# Altium footprint library 28Pins V01.PcbLib: 29 footprints (part 2 of 2)
Each footprint in its own frame and in the unit in brackets; x right, y up, seen from the top. Pads: shape width x height; smd on the part's side, far side on the other; paste and mask are expansions set on the pad; w line width, h text height; cw(c..) or ccw(c..) is an arc to the next point about the centre after c.
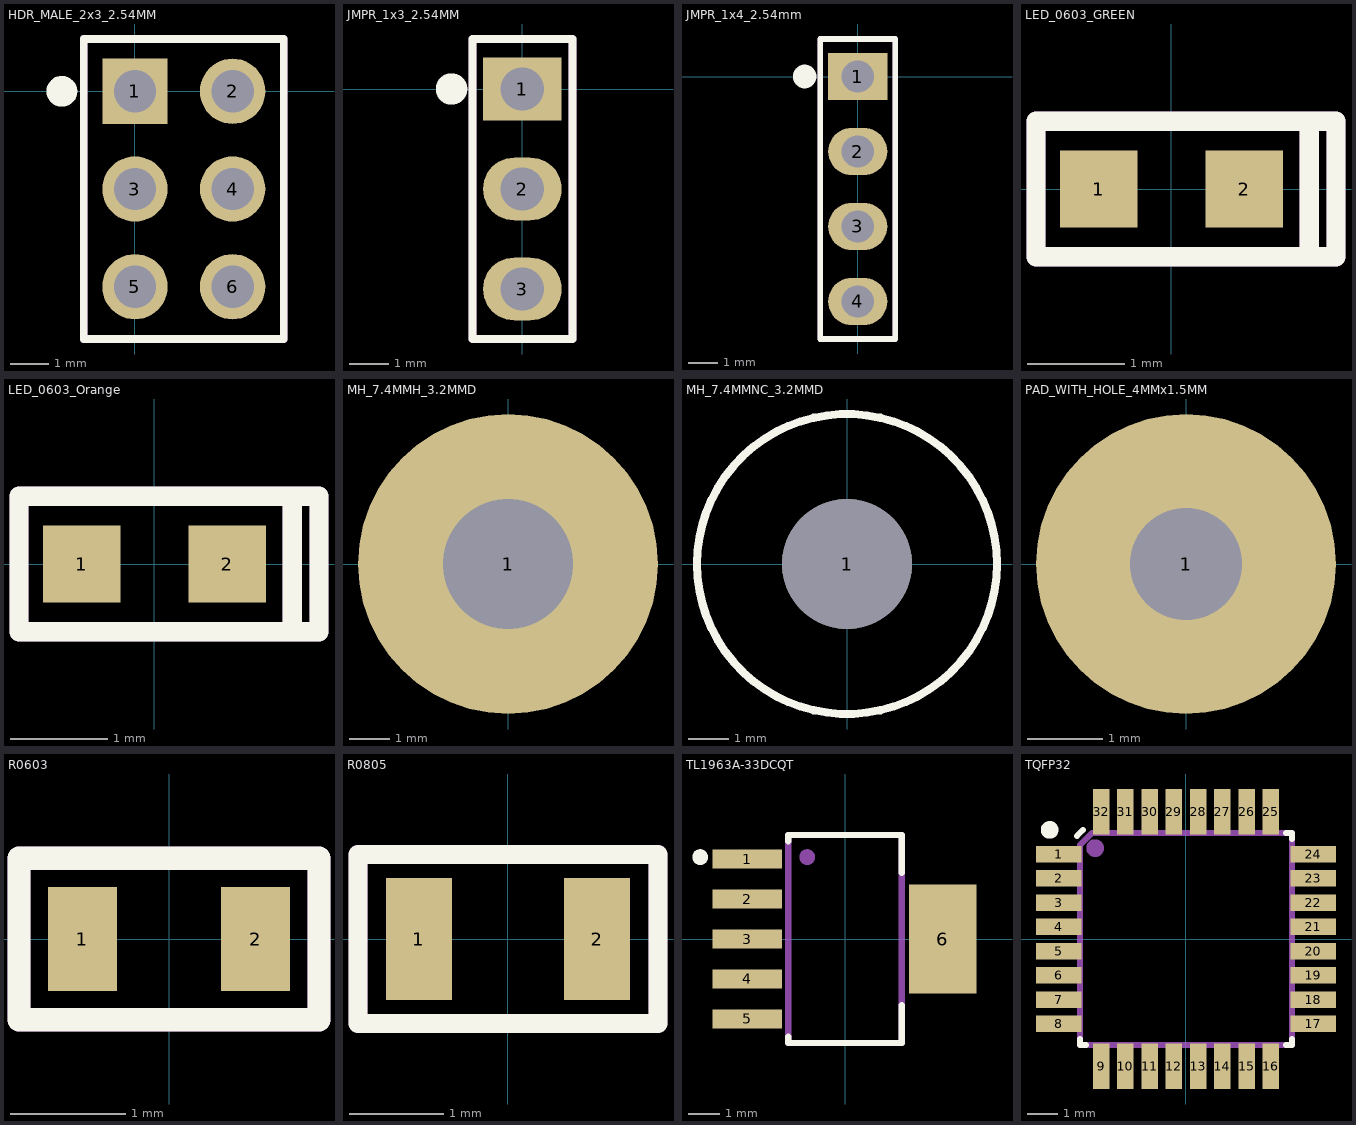
[diagram p1: the footprints below, top view; thin cyan lines are the x and y axes]

## HDR_MALE_2x3_2.54MM [mm]
pads (6):
  rect 1.7x1.7 hole 1.1: 1(0,0)
  round 1.7 hole 1.1: 2(2.54,0) 3(0,-2.54) 4(2.54,-2.54) 5(0,-5.08) 6(2.54,-5.08)
Top Overlay:
  circle w0.4: c-1.9,0 r0.2
  lines w0.2: -1.33,-6.44 -1.33,1.36 3.87,1.36 3.87,-6.44 -1.33,-6.44
Mechanical 29:
  circle w0.4: c0,0 r0.2
  lines w0.2: -1.33,-6.44 -1.33,1.36 3.87,1.36 3.87,-6.44 -1.33,-6.44
  text "'.Designator'" at 1.47,-5.94 h1.5
3D body "hdr_male_2x6_2.54.step": height 8.89, standoff -5.08, extent -1.27,-6.35 3.81,1.27

## JMPR_1x3_2.54MM [mm]
pads (3):
  rect 2x1.6 hole 1.1: 1(0,0)
  oval 2x1.6 hole 1.1: 2(0,-2.54) 3(0,-5.08)
Top Overlay:
  circle w0.4: c-1.8,0 r0.2
  lines w0.2: -1.27,-6.35 1.27,-6.35 1.27,1.27 -1.27,1.27 -1.27,-6.35
Mechanical 29:
  circle w0.4: c0,0 r0.2
  lines w0.2: -1.27,-6.35 1.27,-6.35 1.27,1.27 -1.27,1.27 -1.27,-6.35
  text "'.Designator'" at 0.6,-6.2 h1.5
3D body "HDR_1x3_White.stp": height 8.19, standoff -3.31, extent -1.205,-6.15 1.205,1.07

## JMPR_1x4_2.54mm [mm]
pads (4):
  rect 2x1.6 hole 1.1: 1(0,0)
  oval 2x1.6 hole 1.1: 2(0,-2.54) 3(0,-5.08) 4(0,-7.62)
Top Overlay:
  circle w0.4: c-1.8,0 r0.2
  lines w0.2: -1.27,-8.89 1.27,-8.89 1.27,1.27 -1.27,1.27 -1.27,-8.89
Mechanical 29:
  circle w0.4: c0,0 r0.2
  lines w0.2: -1.27,-8.89 1.27,-8.89 1.27,1.27 -1.27,1.27 -1.27,-8.89
  text "'.Designator'" at 0.508,-8.636 h1.5
3D body "HDR_1x4_White.stp": height 8.19, standoff -3.31, extent -1.205,-8.69 1.205,1.07

## LED_0603_GREEN [mm]
pads (2):
  rect 0.8x0.8 smd: 1(-0.75,0) 2(0.75,0)
Top Overlay:
  lines w0.2: 1.424,-0.7 1.424,0.7 ; -1.4,-0.7 -1.4,0.7 1.7,0.7 1.7,-0.7 -1.4,-0.7
Mechanical 29:
  lines w0.2: 1.424,-0.7 1.424,0.7 ; -1.4,-0.7 -1.4,0.7 1.7,0.7 1.7,-0.7 -1.4,-0.7
  text "'.Designator'" at -1.524,-0.508 h1
3D body "LED_0603_Green.STEP": height 0.6, standoff 0, extent -0.8,-0.4 0.8,0.4

## LED_0603_Orange [mm]
pads (2):
  rect 0.8x0.8 smd: 1(-0.75,0) 2(0.75,0)
Top Overlay:
  lines w0.2: 1.424,-0.7 1.424,0.7 ; -1.4,-0.7 1.7,-0.7 1.7,0.7 -1.4,0.7 -1.4,-0.7
Mechanical 29:
  lines w0.2: 1.424,-0.7 1.424,0.7 ; -1.4,-0.7 1.7,-0.7 1.7,0.7 -1.4,0.7 -1.4,-0.7
  text "'.Designator'" at -1.524,-0.508 h1
3D body "LED_0603_Orange.STEP": height 0.6, standoff 0, extent -0.8,-0.4 0.8,0.4

## MH_7.4MMH_3.2MMD [mm]
pads (1):
  round 7.4 hole 3.2: 1(0,0)

## MH_7.4MMNC_3.2MMD [mm]
pads (1):
  round 3.2 hole 3.2 unplated: 1(0,0)
Top Overlay:
  circle w0.2: c0,0 r3.7

## PAD_WITH_HOLE_4MMx1.5MM [mm]
pads (1):
  round 4 hole 1.5: 1(0,0)

## PCBComponent_1 [mm]

## R0603 [mm]
pads (2):
  rect 0.6x0.9 smd: 1(-0.75,0) 2(0.75,0)
Top Overlay:
  lines w0.2: -1.3,-0.7 1.3,-0.7 1.3,0.7 -1.3,0.7 -1.3,-0.7
Mechanical 29:
  lines w0.2: -1.3,-0.7 1.3,-0.7 1.3,0.7 -1.3,0.7 -1.3,-0.7
  text "'.Designator'" at -1.3,-0.4 h1
3D body "R0603.step": height 0.85, standoff 0.01, extent -0.8,-0.4 0.8,0.4

## R0805 [mm]
pads (2):
  rect 0.7x1.3 smd: 1(-0.95,0) 2(0.95,0)
Top Overlay:
  lines w0.2: -1.6,-0.9 1.6,-0.9 1.6,0.9 -1.6,0.9 -1.6,-0.9
Mechanical 29:
  lines w0.2: -1.6,-0.9 1.6,-0.9 1.6,0.9 -1.6,0.9 -1.6,-0.9
  text "'.Designator'" at -1.4,-0.5 h1
3D body "r0805.STEP": height 0.58, standoff -0.02, extent -1,-0.625 1,0.625

## TL1963A-33DCQT [mm]
pads (6):
  rect 2.2x0.6 smd: 1(-3.1,2.54) 2(-3.1,1.27) 3(-3.1,0) 4(-3.1,-1.27) 5(-3.1,-2.54)
  rect 2.15x3.45 smd: 6(3.1,0)
Top Overlay:
  circle w0.3: c-4.6,2.6 r0.1
  lines w0.2: -1.8,-3.1 -1.8,-3.3 1.8,-3.3 1.8,-2.1 ; -1.8,3.1 -1.8,3.3 1.8,3.3 1.8,2.1
Mechanical 29:
  circle w0.3: c-1.2,2.6 r0.1
  lines w0.2: -1.8,-3.3 1.8,-3.3 1.8,3.3 -1.8,3.3 -1.8,-3.3
  text "'.Designator'" at 0.3,-3 h1
  text "'.Designator'" at 0.3,-3 h1
3D body "TL1963ADCQR_SOT223-6.step": height 1.8, standoff 0, extent -3.682,-3.275 3.578,3.275

## TQFP32 [mm]
pads (32):
  rect 1.5x0.55 smd mask+0.06: 1(-4.2,2.8) 2(-4.2,2) 3(-4.2,1.2) 4(-4.2,0.4) 5(-4.2,-0.4) 6(-4.2,-1.2) 7(-4.2,-2) 8(-4.2,-2.8) 17(4.2,-2.8) 18(4.2,-2) 19(4.2,-1.2) 20(4.2,-0.4) 21(4.2,0.4) 22(4.2,1.2) 23(4.2,2) 24(4.2,2.8)
  rect 0.55x1.5 smd mask+0.06: 9(-2.8,-4.2) 10(-2,-4.2) 11(-1.2,-4.2) 12(-0.4,-4.2) 13(0.4,-4.2) 14(1.2,-4.2) 15(2,-4.2) 16(2.8,-4.2) 25(2.8,4.2) 26(2,4.2) 27(1.2,4.2) 28(0.4,4.2) 29(-0.4,4.2) 30(-1.2,4.2) 31(-2,4.2) 32(-2.8,4.2)
Top Overlay:
  circle w0.3: c-4.5,3.6 r0.141
  lines w0.2: -3.6,3.4 -3.4,3.6 ; -3.5,-3.3 -3.5,-3.5 -3.3,-3.5 ; 3.3,-3.5 3.5,-3.5 3.5,-3.3 ; 3.3,3.5 3.5,3.5 3.5,3.3
Mechanical 29:
  circle w0.3: c-3,3 r0.141
  lines w0.2: -3.5,-3.5 3.5,-3.5 3.5,3.5 -3.1,3.5 -3.5,3.1 -3.5,-3.5
  text "'.Designator'" at -2.7,-0.6 h1.5
3D body "tqfp32.step": height 1.2, standoff 0, extent -4.6,-4.599 4.599,4.599